# EAGLE library part ATMEGA4808-TQFN32 (library microchip-special)
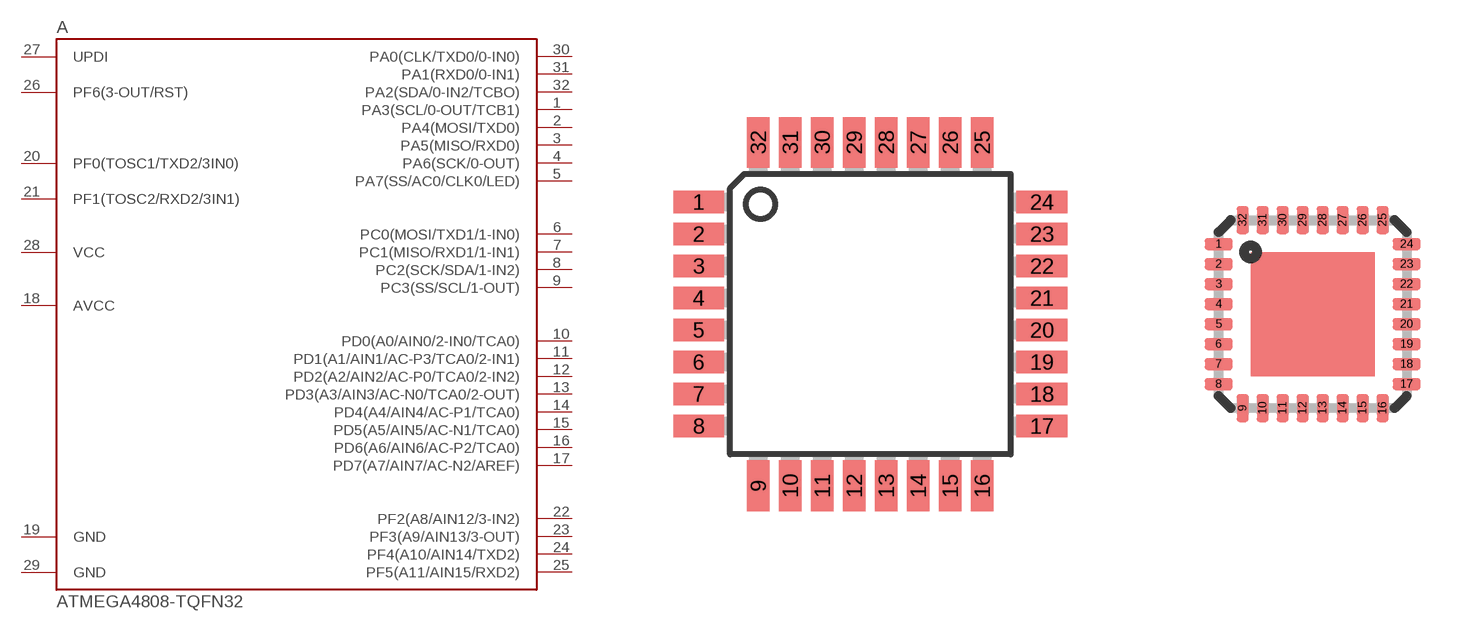
[diagram p19: symbol with the pads of TQFP32-08; footprints TQFP32-08, MLF32]

Designator prefix A

## ATMEGA4808-TQFN32A  [TQFP32-08]
1  PA3(SCL/0-OUT/TCB1)
2  PA4(MOSI/TXD0)
3  PA5(MISO/RXD0)
4  PA6(SCK/0-OUT)
5  PA7(SS/AC0/CLK0/LED)
6  PC0(MOSI/TXD1/1-IN0)
7  PC1(MISO/RXD1/1-IN1)
8  PC2(SCK/SDA/1-IN2)
9  PC3(SS/SCL/1-OUT)
10  PD0(A0/AIN0/2-IN0/TCA0)
11  PD1(A1/AIN1/AC-P3/TCA0/2-IN1)
12  PD2(A2/AIN2/AC-P0/TCA0/2-IN2)
13  PD3(A3/AIN3/AC-N0/TCA0/2-OUT)
14  PD4(A4/AIN4/AC-P1/TCA0)
15  PD5(A5/AIN5/AC-N1/TCA0)
16  PD6(A6/AIN6/AC-P2/TCA0)
17  PD7(A7/AIN7/AC-N2/AREF)
18  AVCC  pas
19  GND  pwr
20  PF0(TOSC1/TXD2/3IN0)
21  PF1(TOSC2/RXD2/3IN1)
22  PF2(A8/AIN12/3-IN2)
23  PF3(A9/AIN13/3-OUT)
24  PF4(A10/AIN14/TXD2)
25  PF5(A11/AIN15/RXD2)
26  PF6(3-OUT/RST)
27  UPDI
28  VCC  pwr
29  GND  pwr
30  PA0(CLK/TXD0/0-IN0)
31  PA1(RXD0/0-IN1)
32  PA2(SDA/0-IN2/TCBO)

## ATMEGA4808-TQFN32M  [MLF32]
Pads as for TQFP32-08

## Footprint TQFP32-08 (pad centres in mm)
Thin Plasic Quad Flat Package Grid 0.8 mm
smd 1.27 x 0.559: 1 -4.293,2.8; 2 -4.293,2; 3 -4.293,1.2; 4 -4.293,0.4; 5 -4.293,-0.4; 6 -4.293,-1.2; 7 -4.293,-2; 8 -4.293,-2.8; 17 4.293,-2.8; 18 4.293,-2; 19 4.293,-1.2; 20 4.293,-0.4; 21 4.293,0.4; 22 4.293,1.2; 23 4.293,2; 24 4.293,2.8
smd 0.559 x 1.27: 9 -2.8,-4.293; 10 -2,-4.293; 11 -1.2,-4.293; 12 -0.4,-4.293; 13 0.4,-4.293; 14 1.2,-4.293; 15 2,-4.293; 16 2.8,-4.293; 25 2.8,4.293; 26 2,4.293; 27 1.2,4.293; 28 0.4,4.293; 29 -0.4,4.293; 30 -1.2,4.293; 31 -2,4.293; 32 -2.8,4.293

## Footprint MLF32 (pad centres in mm)
32M1-A Micro Lead Frame package (MLF)
smd 0.7 x 0.3: 1 -2.35,1.75; 2 -2.35,1.25; 3 -2.35,0.75; 4 -2.35,0.25; 5 -2.35,-0.25; 6 -2.35,-0.75; 7 -2.35,-1.25; 8 -2.35,-1.75; 17 2.35,-1.75; 18 2.35,-1.25; 19 2.35,-0.75; 20 2.35,-0.25; 21 2.35,0.25; 22 2.35,0.75; 23 2.35,1.25; 24 2.35,1.75
smd 0.3 x 0.7: 9 -1.75,-2.35; 10 -1.25,-2.35; 11 -0.75,-2.35; 12 -0.25,-2.35; 13 0.25,-2.35; 14 0.75,-2.35; 15 1.25,-2.35; 16 1.75,-2.35; 25 1.75,2.35; 26 1.25,2.35; 27 0.75,2.35; 28 0.25,2.35; 29 -0.25,2.35; 30 -0.75,2.35; 31 -1.25,2.35; 32 -1.75,2.35